# Altium footprint library PCBLibrary.PcbLib: 61 footprints (part 3 of 4)
Each footprint in its own frame and in the unit in brackets; x right, y up, seen from the top. Pads: shape width x height; smd on the part's side, far side on the other; paste and mask are expansions set on the pad; w line width, h text height; cw(c..) or ccw(c..) is an arc to the next point about the centre after c.
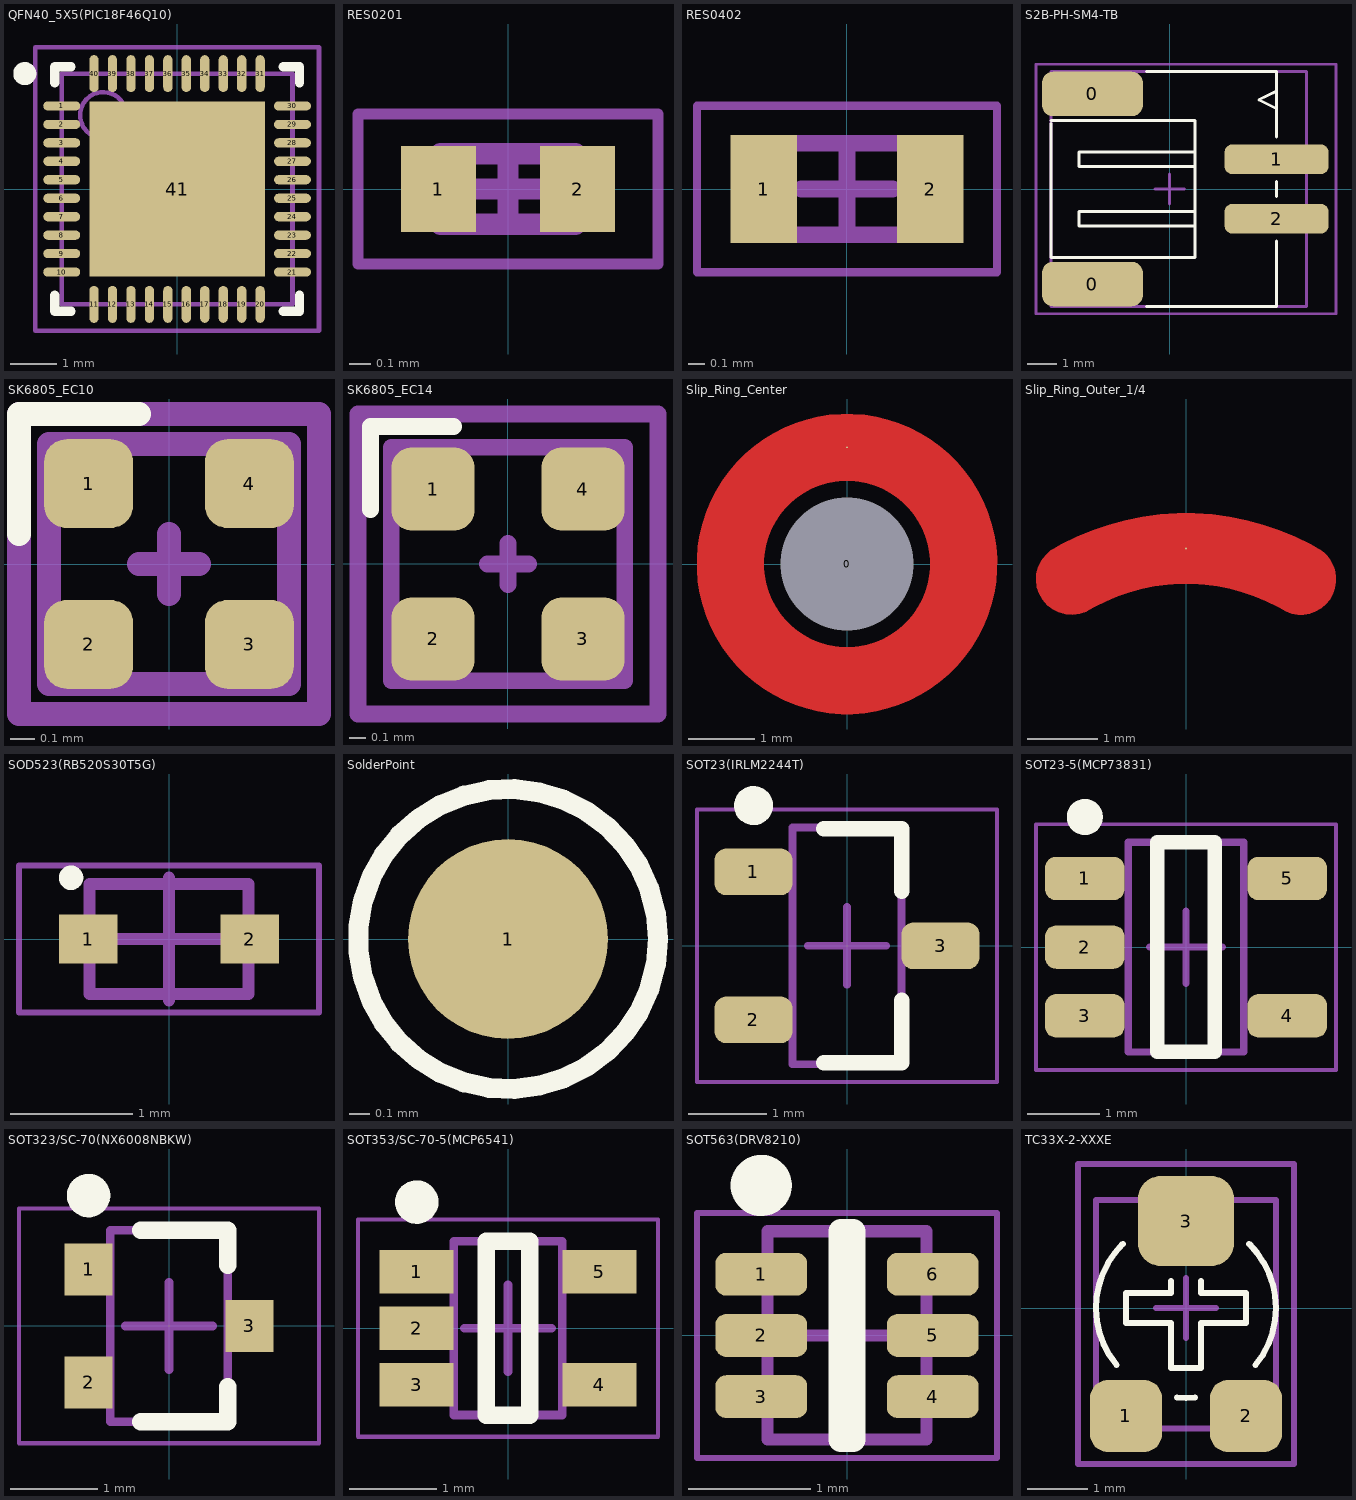
[diagram p2: the footprints below, top view; thin cyan lines are the x and y axes]

## QFN40_5X5(PIC18F46Q10) [mm] "QFN, 40-Leads, Body 5.00x5.00mm, Pitch 0.40mm, Thermal Pad 3.80x3.80mm, IPC Medium Density"
height 0.9
pads (41):
  oval 0.8x0.2 smd: 1(-2.5,1.8) 2(-2.5,1.4) 3(-2.5,1) 4(-2.5,0.6) 5(-2.5,0.2) 6(-2.5,-0.2) 7(-2.5,-0.6) 8(-2.5,-1) 9(-2.5,-1.4) 10(-2.5,-1.8) 21(2.5,-1.8) 22(2.5,-1.4) 23(2.5,-1) 24(2.5,-0.6) 25(2.5,-0.2) 26(2.5,0.2) 27(2.5,0.6) 28(2.5,1) 29(2.5,1.4) 30(2.5,1.8)
  oval 0.2x0.8 smd: 11(-1.8,-2.5) 12(-1.4,-2.5) 13(-1,-2.5) 14(-0.6,-2.5) 15(-0.2,-2.5) 16(0.2,-2.5) 17(0.6,-2.5) 18(1,-2.5) 19(1.4,-2.5) 20(1.8,-2.5) 31(1.8,2.5) 32(1.4,2.5) 33(1,2.5) 34(0.6,2.5) 35(0.2,2.5) 36(-0.2,2.5) 37(-0.6,2.5) 38(-1,2.5) 39(-1.4,2.5) 40(-1.8,2.5)
  rect 3.8x3.8 smd: 41(0,0)
Top Overlay:
  circle w0.25: c-3.3,2.5 r0.125
  lines w0.2: -2.65,-2.3 -2.65,-2.65 -2.3,-2.65 ; -2.65,2.3 -2.65,2.65 -2.3,2.65 ; 2.3,-2.65 2.65,-2.65 2.65,-2.3 ; 2.3,2.65 2.65,2.65 2.65,2.3
Mechanical 13:
  circle w0.1: c-1.6,1.6 r0.5
  lines w0.1: -2.5,-2.5 -2.5,2.5 2.5,2.5 2.5,-2.5 -2.5,-2.5
Mechanical 15:
  lines w0.1: -0.5,0 0.5,0 ; 0,-0.5 0,0.5 ; -3.075,-3.075 -3.075,3.075 3.075,3.075 3.075,-3.075 -3.075,-3.075
3D body "QFN40_5X5(PIC18F46Q10).step": height 0.9, standoff 0, extent -2.501,-2.501 2.501,2.501

## RES0201 [mm] "Chip Resistor, 2-Leads, Body 0.60x0.30mm, IPC Medium Density"
height 0.27
pads (2):
  rect 0.35x0.4 smd: 1(-0.325,0) 2(0.325,0)
Mechanical 13:
  lines w0.1: -0.315,-0.165 0.315,-0.165 0.315,0.165 -0.315,0.165 -0.315,-0.165
Mechanical 15:
  lines w0.05: -0.7,-0.35 0.7,-0.35 0.7,0.35 -0.7,0.35 -0.7,-0.35
  lines w0.1: -0.165,0 0.165,0 ; 0,-0.165 0,0.165
3D body "RES0201.step": height 0.27, standoff 0, extent -0.315,-0.165 0.315,0.165

## RES0402 [mm] "Chip Resistor, 2-Leads, Body 1.00x0.50mm, IPC Medium Density"
height 0.4
pads (2):
  rect 0.4x0.65 smd: 1(-0.5,0) 2(0.5,0)
Mechanical 13:
  lines w0.1: -0.55,-0.275 -0.55,0.275 0.55,0.275 0.55,-0.275 -0.55,-0.275
Mechanical 15:
  lines w0.05: -0.9,-0.5 -0.9,0.5 0.9,0.5 0.9,-0.5 -0.9,-0.5
  lines w0.1: -0.275,0 0.275,0 ; 0,-0.275 0,0.275
3D body "RES0402.step": height 0.4, standoff 0, extent -0.55,-0.275 0.55,0.275

## S2B-PH-SM4-TB [mm] "CONN HEADER SMD R/A 2POS 2MM"
height 5.5
pads (4):
  rrect50% 3.4x1.5 smd: 0(-2.6,-3.2) 0(-2.6,3.2)
  rrect50% 3.5x1 smd: 1(3.6,1) 2(3.6,-1)
Top Overlay:
  lines w0.1: -4,2.203 -4,-2.3 0.85,-2.3 0.85,-1.25 ; -4,2.3 0.85,2.3 0.85,1.25 ; -0.773,-3.95 3.6,-3.95 3.6,-1.752 ; -0.773,3.95 3.6,3.95 3.6,1.752 ; 3.6,-0.248 3.6,0.248 ; 3.6,2.7 3,3 3.6,3.3 ; 0.85,-1.25 0.85,-0.75 ; 0.85,-1.25 -3.05,-1.25 -3.05,-0.75 0.85,-0.75 ; 0.85,-0.75 0.85,0.75 ; 0.85,0.75 0.85,1.25 ; 0.85,0.75 -3.05,0.75 -3.05,1.25 0.85,1.25
Mechanical 13:
  lines w0.1: -4,-3.95 -4,3.95 4.6,3.95 4.6,-3.95 -4,-3.95
Mechanical 15:
  lines w0.1: -0.5,0 0.5,0 ; 0,-0.5 0,0.5 ; -4.5,-4.2 -4,-4.2 5.6,-4.2 5.6,-1 5.6,4.2 -4,4.2 -4.5,4.2 -4.5,-3.6 -4.5,-4.2
3D body "S2B-PH-SM4-TB.STEP": height 5.61, standoff 0.01, extent -4,-3.95 4.6,3.95

## SK6805_EC10 [mm]
height 0.7
pads (4):
  rrect50% 0.37x0.37 smd: 1(-0.335,0.335) 2(-0.335,-0.335) 3(0.335,-0.335) 4(0.335,0.335)
Top Overlay:
  lines w0.1: -0.625,0.125 -0.625,0.625 -0.125,0.625
Mechanical 13:
  circle w0.2: c-0.3,0.3 r0.025
  lines w0.1: -0.5,-0.5 -0.5,0.493 ; -0.5,0.5 0.493,0.5 ; -0.493,-0.5 0.5,-0.5 ; 0.5,-0.493 0.5,0.5
Mechanical 15:
  lines w0.1: -0.125,0 0.125,0 ; 0,-0.125 0,0.125 ; -0.625,-0.625 0.625,-0.625 0.625,0.625 -0.625,0.625 -0.625,-0.625
3D body: height 0.7, standoff 0, extent -0.5,-0.5 0.5,0.5

## SK6805_EC14 [mm]
height 0.7
pads (4):
  rrect50% 0.5x0.5 smd: 1(-0.45,0.45) 2(-0.45,-0.45) 3(0.45,-0.45) 4(0.45,0.45)
Top Overlay:
  lines w0.1: -0.825,0.325 -0.825,0.825 -0.325,0.825
Mechanical 13:
  circle w0.2: c-0.5,0.5 r0.025
  lines w0.1: -0.7,-0.7 -0.7,0.7 0.7,0.7 0.7,-0.7 -0.7,-0.7
Mechanical 15:
  lines w0.1: -0.125,0 0.125,0 ; 0,-0.125 0,0.125 ; -0.9,-0.9 0.9,-0.9 0.9,0.9 -0.9,0.9 -0.9,-0.9
3D body: height 0.4, standoff 0, extent -0.7,-0.7 0.7,0.7

## Slip_Ring_Center [mm]
pads (2):
  rect 0.2x0.63 hole 2 unplated: 0(0,0)
  round 0.025 smd: 1(0,1.75)
Top Layer:
  region: 158 vertices and 0 holes, not listed, extent -2.25,-2.25 2.25,2.25

## Slip_Ring_Outer_1/4 [mil]
pads (1):
  round 1 smd: 1(0,127.95)
Top Layer:
  region: -54.13,93.75 -55.81,92.78 -59.48,91.53 -63.33,91.03 -67.2,91.28 -70.95,92.28 -74.43,94 -77.51,96.36 -80.07,99.28 -82.01,102.64 -83.25,106.32 -83.76,110.16 -83.51,114.03 -82.5,117.78 -80.79,121.26 -78.42,124.34 -75.51,126.9 -73.83,127.87 -69.64,130.29 -60.97,134.56 -52.04,138.26 -42.88,141.37 -33.55,143.87 -24.06,145.76 -14.48,147.02 -4.83,147.65 4.83,147.65 14.48,147.02 24.06,145.76 33.55,143.87 42.88,141.37 52.04,138.26 60.97,134.56 69.64,130.29 73.83,127.87 74.94,127.23 76.99,125.65 78.82,123.83 80.39,121.78 81.68,119.54 82.67,117.16 83.34,114.66 83.68,112.1 83.68,110.81 83.68,109.09 83.08,105.69 81.9,102.45 80.18,99.47 77.96,96.83 75.32,94.61 72.33,92.89 69.09,91.71 65.7,91.11 62.25,91.11 58.86,91.71 55.62,92.89 54.13,93.75 51.03,95.47 44.68,98.6 38.13,101.31 31.42,103.59 24.58,105.42 17.63,106.81 10.61,107.73 3.54,108.19 -3.54,108.19 -10.61,107.73 -17.63,106.81 -24.58,105.42 -31.42,103.59 -38.13,101.31 -44.68,98.6 -51.03,95.47

## SOD523(RB520S30T5G) [mm] "SODFL, 2-Leads, Body 0.80x1.60mm, IPC Medium Density"
height 0.7
pads (2):
  rect 0.48x0.4 smd: 1(-0.66,0) 2(0.66,0)
Top Overlay:
  circle w0.1: c-0.8,0.5 r0.05
Mechanical 13:
  lines w0.1: -0.65,-0.45 0.65,-0.45 0.65,0.45 -0.65,0.45 -0.65,-0.45
Mechanical 15:
  lines w0.05: -1.225,-0.6 1.225,-0.6 1.225,0.6 -1.225,0.6 -1.225,-0.6
  lines w0.1: -0.5,0 0.5,0 ; 0,-0.5 0,0.5
3D body "SODFL160X70-2N.step": height 0.7, standoff 0, extent -0.8,-0.45 0.8,0.45

## SolderPoint [mm] "Simple Solder Point to connect someting"
pads (1):
  round 1 smd: 1(0,0)
Top Overlay:
  circle w0.1: c0,0 r0.75

## SOT23(IRLM2244T) [mm] "SOT23, 3-Leads, Body 2.92x2.37mm, Pitch 0.95mm, IPC Medium Density"
height 1.12
pads (3):
  rrect50% 1x0.6 smd: 1(-1.2,0.95) 2(-1.2,-0.95) 3(1.2,0)
Top Overlay:
  circle w0.25: c-1.2,1.8 r0.125
  lines w0.2: -0.3,-1.5 0.7,-1.5 0.7,-0.7 ; -0.3,1.5 0.7,1.5 0.7,0.7
Mechanical 13:
  lines w0.1: -0.7,-1.52 0.7,-1.52 0.7,1.52 -0.7,1.52 -0.7,-1.52
Mechanical 15:
  lines w0.05: -1.925,-1.75 1.925,-1.75 1.925,1.75 -1.925,1.75 -1.925,-1.75
  lines w0.1: -0.5,0 0.5,0 ; 0,-0.5 0,0.5
3D body "SOT23(IRLM2244T).step": height 1.12, standoff 0, extent -1.32,-1.52 1.32,1.52

## SOT23-5(MCP73831) [mm] "SOT23, 5-Leads, Body 2.90x2.80mm, Pitch 0.95mm, IPC Medium Density"
height 1.45
pads (5):
  rrect50% 1.1x0.6 smd: 1(-1.4,0.95) 2(-1.4,0) 3(-1.4,-0.95) 4(1.4,-0.95) 5(1.4,0.95)
Top Overlay:
  circle w0.25: c-1.4,1.8 r0.125
  lines w0.2: -0.4,-1.45 -0.4,1.45 0.4,1.45 0.4,-1.45 -0.4,-1.45
Mechanical 13:
  lines w0.1: -0.8,-1.45 0.8,-1.45 0.8,1.45 -0.8,1.45 -0.8,-1.45
Mechanical 15:
  lines w0.05: -2.075,-1.7 2.075,-1.7 2.075,1.7 -2.075,1.7 -2.075,-1.7
  lines w0.1: -0.5,0 0.5,0 ; 0,-0.5 0,0.5
3D body "SOT23-5(MCP73831).step": height 1.45, standoff 0, extent -1.4,-1.45 1.4,1.45

## SOT323/SC-70(NX6008NBKW) [mm] "SOT23, 3-Leads, Body 2.00x2.10mm, Pitch 0.65mm, IPC Medium Density"
height 1.1
pads (3):
  rect 0.55x0.6 smd: 1(-0.925,0.65) 2(-0.925,-0.65) 3(0.925,0)
Top Overlay:
  circle w0.25: c-0.925,1.5 r0.125
  lines w0.2: -0.325,-1.1 0.675,-1.1 0.675,-0.7 ; -0.325,1.1 0.675,1.1 0.675,0.7
Mechanical 13:
  lines w0.1: -0.675,-1.1 -0.675,1.1 0.675,1.1 0.675,-1.1 -0.675,-1.1
Mechanical 15:
  lines w0.05: -1.725,-1.35 -1.725,1.35 1.725,1.35 1.725,-1.35 -1.725,-1.35
  lines w0.1: -0.5,0 0.5,0 ; 0,-0.5 0,0.5
3D body "SOT23127P600-8N.step": height 1.1, standoff 0, extent -1.15,-1.1 1.15,1.1

## SOT353/SC-70-5(MCP6541) [mm] "SOT23, 5-Leads, Body 2.00x2.10mm, Pitch 0.65mm, IPC Medium Density"
height 1.1
pads (5):
  rect 0.85x0.5 smd: 1(-1.05,0.65) 2(-1.05,0) 3(-1.05,-0.65) 4(1.05,-0.65) 5(1.05,0.65)
Top Overlay:
  circle w0.25: c-1.05,1.45 r0.125
  lines w0.2: -0.25,-1 -0.25,1 0.25,1 0.25,-1 -0.25,-1
Mechanical 13:
  lines w0.1: -0.625,-1 0.625,-1 0.625,1 -0.625,1 -0.625,-1
Mechanical 15:
  lines w0.05: -1.725,-1.25 1.725,-1.25 1.725,1.25 -1.725,1.25 -1.725,-1.25
  lines w0.1: -0.5,0 0.5,0 ; 0,-0.5 0,0.5
3D body "SOT65P210X110-5N.step": height 1.1, standoff 0, extent -1.15,-1 1.15,1

## SOT563(DRV8210) [mm] "SOTFL, 6-Leads, Body 1.60x1.60mm, Pitch 0.50mm, IPC Medium Density"
height 0.6
pads (6):
  rrect50% 0.75x0.35 smd: 1(-0.7,0.5) 2(-0.7,0) 3(-0.7,-0.5) 4(0.7,-0.5) 5(0.7,0) 6(0.7,0.5)
Top Overlay:
  circle w0.25: c-0.7,1.225 r0.125
  lines w0.2: -0.05,-0.85 -0.05,0.85 0.05,0.85 0.05,-0.85 -0.05,-0.85
Mechanical 13:
  lines w0.1: -0.65,-0.85 0.65,-0.85 0.65,0.85 -0.65,0.85 -0.65,-0.85
Mechanical 15:
  lines w0.05: -1.225,-1 1.225,-1 1.225,1 -1.225,1 -1.225,-1
  lines w0.1: -0.5,0 0.5,0 ; 0,-0.5 0,0.5
3D body "SOT-5X3(DRV8210).step": height 0.6, standoff 0, extent -0.8,-0.848 0.8,0.848

## TC33X-2-XXXE [mm] "Bourns Trimmer Pot"
height 1.2
pads (3):
  rrect50% 1.2x1.2 smd: 1(-1,-1.8) 2(1,-1.8)
  rrect50% 1.6x1.5 smd: 3(0,1.45)
Top Overlay:
  lines w0.1: -1.162,-0.948 cw(c0,0) -1.052,1.07 ; -0.25,0.448 -0.25,0.25 -1,0.25 -1,-0.25 -0.25,-0.25 -0.25,-1 0.25,-1 0.25,-0.25 1,-0.25 1,0.25 0.25,0.25 0.25,0.448 ; -0.148,-1.493 ccw(c0,0) 0.148,-1.493 ; 1.052,1.07 cw(c0,0) 1.5,0 cw(c0,0) 1.162,-0.948
Mechanical 13:
  lines w0.1: -1.499,-2.007 1.499,-2.007 1.499,1.803 -1.499,1.803 -1.499,-2.007
Mechanical 15:
  lines w0.1: -0.5,0 0.5,0 ; 0,-0.5 0,0.5 ; -1.8,-2.6 -1.8,2.4 1.8,2.4 1.8,-2.6 -1.8,-2.6
3D body "tc33x-2-xxx.stp": height 1.22, standoff 0.01, extent -1.499,-2.007 1.499,1.803